# Altium schematic symbol library TRANSFORMERS.SchLib: 1 symbol
Pins are listed as number, name and electrical type; pins without a type are passive.

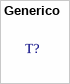
[diagram p0: symbol Generico]

## Generico
designator T?
Manufacturer Part Number: *; Working Temperature: *; Temperature Coefficient: *; Mounting: *; Short Description: *; Power: *; Ratings: *; Type: *; Frequency: *; Alternate Part Number 1: *; Alternate Part Number 2: *; Manufacturer: *; Tolerance: *; Current: *; Revision Date: *; Package Reference: *; Voltage: *; Value: *